# Altium footprint library Connector_Samtec_MicroMate.PcbLib: 76 footprints (part 5 of 5)
Each footprint in its own frame and in the unit in brackets; x right, y up, seen from the top. Pads: shape width x height; smd on the part's side, far side on the other; paste and mask are expansions set on the pad; w line width, h text height; cw(c..) or ccw(c..) is an arc to the next point about the centre after c.
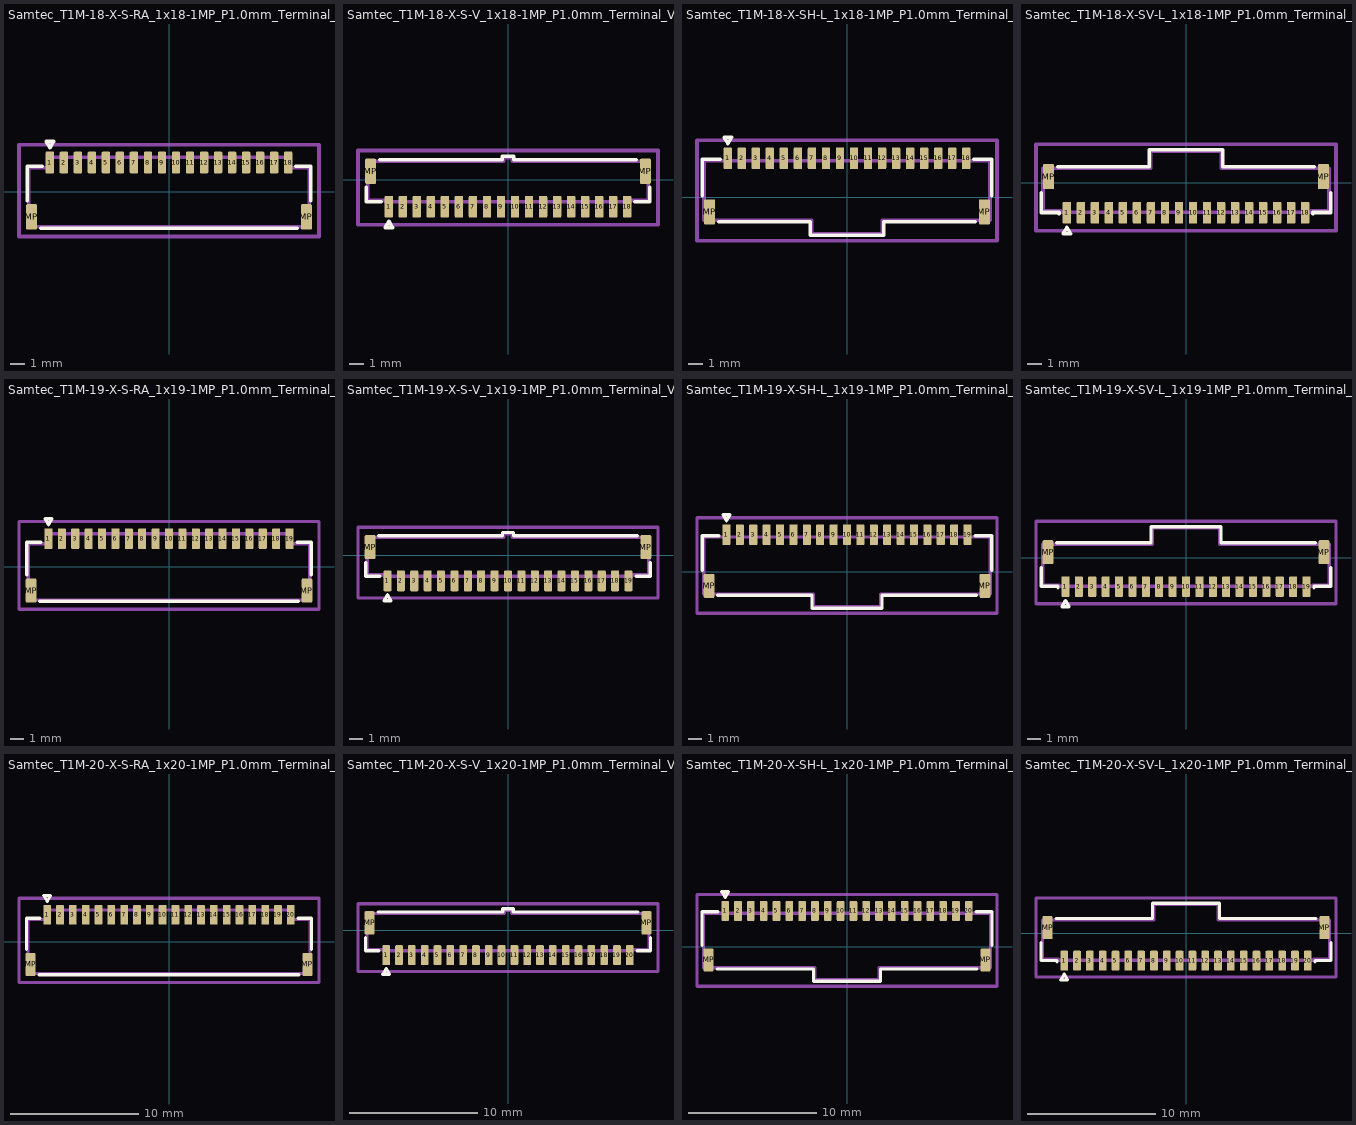
[diagram p4: the footprints below, top view; thin cyan lines are the x and y axes]

## Samtec_T1M-18-X-S-RA_1x18-1MP_P1.0mm_Terminal_Horizontal [mm]
pads (20):
  rrect25% 0.6x1.55 smd: 1(-8.5,2.1) 2(-7.5,2.1) 3(-6.5,2.1) 4(-5.5,2.1) 5(-4.5,2.1) 6(-3.5,2.1) 7(-2.5,2.1) 8(-1.5,2.1) 9(-0.5,2.1) 10(0.5,2.1) 11(1.5,2.1) 12(2.5,2.1) 13(3.5,2.1) 14(4.5,2.1) 15(5.5,2.1) 16(6.5,2.1) 17(7.5,2.1) 18(8.5,2.1)
  rrect25% 0.8x1.8 smd: MP(-9.8,-1.775) MP(9.8,-1.775)
F.SilkS:
  lines w0.254: -10.11,-0.615 -10.11,1.835 -9.06,1.835 ; -9.14,-2.585 9.14,-2.585 ; 9.06,1.835 10.11,1.835 10.11,-0.615 ; -8.76,3.6 -8.24,3.6 -8.5,3.15 -8.76,3.6
Top Assembly:
  lines w0.254: -10,-2.475 10,-2.475 10,1.725 8.6,1.725 8.6,2.475 -8.6,2.475 -8.6,1.725 -10,1.725 -10,-2.475
  text "'.Designator'" at -4.047,-0.84 h1
Top Courtyard:
  lines w0.254: -10.7,-3.18 10.7,-3.18 10.7,3.38 -10.7,3.38 -10.7,-3.18
Top Designator:
  text ".Designator" at -7.618,-0.298 h1.52

## Samtec_T1M-18-X-S-V_1x18-1MP_P1.0mm_Terminal_Vertical [mm]
pads (20):
  rrect25% 0.6x1.55 smd: 1(-8.5,-1.925) 2(-7.5,-1.925) 3(-6.5,-1.925) 4(-5.5,-1.925) 5(-4.5,-1.925) 6(-3.5,-1.925) 7(-2.5,-1.925) 8(-1.5,-1.925) 9(-0.5,-1.925) 10(0.5,-1.925) 11(1.5,-1.925) 12(2.5,-1.925) 13(3.5,-1.925) 14(4.5,-1.925) 15(5.5,-1.925) 16(6.5,-1.925) 17(7.5,-1.925) 18(8.5,-1.925)
  rrect25% 0.8x1.8 smd: MP(-9.8,0.6) MP(9.8,0.6)
F.SilkS:
  lines w0.254: -10.11,-0.56 -10.11,-1.585 -9.06,-1.585 ; -9.14,1.435 -0.41,1.435 -0.41,1.685 0.41,1.685 0.41,1.435 9.14,1.435 ; 9.06,-1.585 10.11,-1.585 10.11,-0.56 ; -8.76,-3.41 -8.24,-3.41 -8.5,-2.96 -8.76,-3.41
Top Assembly:
  lines w0.254: -10,-1.475 -8.75,-1.475 -8.75,-1.575 8.75,-1.575 8.75,-1.475 10,-1.475 10,1.325 0.3,1.325 0.3,1.575 -0.3,1.575 -0.3,1.325 -10,1.325 -10,-1.475
  text "'.Designator'" at -4.047,-0.84 h1
Top Courtyard:
  lines w0.254: -10.7,-3.2 10.7,-3.2 10.7,2.08 -10.7,2.08 -10.7,-3.2
Top Designator:
  text ".Designator" at -7.618,-1.173 h1.52

## Samtec_T1M-18-X-SH-L_1x18-1MP_P1.0mm_Terminal_Horizontal_Latch [mm]
pads (20):
  rrect25% 0.6x1.55 smd: 1(-8.5,2.775) 2(-7.5,2.775) 3(-6.5,2.775) 4(-5.5,2.775) 5(-4.5,2.775) 6(-3.5,2.775) 7(-2.5,2.775) 8(-1.5,2.775) 9(-0.5,2.775) 10(0.5,2.775) 11(1.5,2.775) 12(2.5,2.775) 13(3.5,2.775) 14(4.5,2.775) 15(5.5,2.775) 16(6.5,2.775) 17(7.5,2.775) 18(8.5,2.775)
  rrect25% 0.8x1.8 smd: MP(-9.8,-1.05) MP(9.8,-1.05)
F.SilkS:
  lines w0.254: -10.31,0.11 -10.31,2.71 -9.06,2.71 ; -9.14,-1.76 -2.61,-1.76 -2.61,-2.71 2.61,-2.71 2.61,-1.76 9.14,-1.76 ; 9.06,2.71 10.31,2.71 10.31,0.11 ; -8.76,4.275 -8.24,4.275 -8.5,3.825 -8.76,4.275
Top Assembly:
  lines w0.254: -10.2,-1.65 -2.5,-1.65 -2.5,-2.6 2.5,-2.6 2.5,-1.65 10.2,-1.65 10.2,2.6 -10.2,2.6 -10.2,-1.65
  text "'.Designator'" at -4.047,-0.84 h1
Top Courtyard:
  lines w0.254: -10.7,-3.1 10.7,-3.1 10.7,4.05 -10.7,4.05 -10.7,-3.1
Top Designator:
  text ".Designator" at -7.618,0.08 h1.52

## Samtec_T1M-18-X-SV-L_1x18-1MP_P1.0mm_Terminal_Vertical_Latch [mm]
pads (20):
  rrect25% 0.6x1.55 smd: 1(-8.5,-2.15) 2(-7.5,-2.15) 3(-6.5,-2.15) 4(-5.5,-2.15) 5(-4.5,-2.15) 6(-3.5,-2.15) 7(-2.5,-2.15) 8(-1.5,-2.15) 9(-0.5,-2.15) 10(0.5,-2.15) 11(1.5,-2.15) 12(2.5,-2.15) 13(3.5,-2.15) 14(4.5,-2.15) 15(5.5,-2.15) 16(6.5,-2.15) 17(7.5,-2.15) 18(8.5,-2.15)
  rrect25% 0.8x1.8 smd: MP(-9.8,0.425) MP(9.8,0.425)
F.SilkS:
  lines w0.254: -10.31,-0.735 -10.31,-2.135 -9.06,-2.135 -9.06,-2.235 ; -9.14,1.135 -2.61,1.135 -2.61,2.335 2.61,2.335 2.61,1.135 9.14,1.135 ; 9.06,-2.235 9.06,-2.135 10.31,-2.135 10.31,-0.735 ; -8.76,-3.65 -8.24,-3.65 -8.5,-3.2 -8.76,-3.65
Top Assembly:
  lines w0.254: -10.2,-2.025 -8.95,-2.025 -8.95,-2.125 8.95,-2.125 8.95,-2.025 10.2,-2.025 10.2,1.025 2.5,1.025 2.5,2.225 -2.5,2.225 -2.5,1.025 -10.2,1.025 -10.2,-2.025
  text "'.Designator'" at -4.047,-0.84 h1
Top Courtyard:
  lines w0.254: -10.7,-3.43 10.7,-3.43 10.7,2.73 -10.7,2.73 -10.7,-3.43
Top Designator:
  text ".Designator" at -7.618,-0.968 h1.52

## Samtec_T1M-19-X-S-RA_1x19-1MP_P1.0mm_Terminal_Horizontal [mm]
pads (21):
  rrect25% 0.6x1.55 smd: 1(-9,2.1) 2(-8,2.1) 3(-7,2.1) 4(-6,2.1) 5(-5,2.1) 6(-4,2.1) 7(-3,2.1) 8(-2,2.1) 9(-1,2.1) 10(0,2.1) 11(1,2.1) 12(2,2.1) 13(3,2.1) 14(4,2.1) 15(5,2.1) 16(6,2.1) 17(7,2.1) 18(8,2.1) 19(9,2.1)
  rrect25% 0.8x1.8 smd: MP(-10.3,-1.775) MP(10.3,-1.775)
F.SilkS:
  lines w0.254: -10.61,-0.615 -10.61,1.835 -9.56,1.835 ; -9.64,-2.585 9.64,-2.585 ; 9.56,1.835 10.61,1.835 10.61,-0.615 ; -9.26,3.6 -8.74,3.6 -9,3.15 -9.26,3.6
Top Assembly:
  lines w0.254: -10.5,-2.475 10.5,-2.475 10.5,1.725 9.1,1.725 9.1,2.475 -9.1,2.475 -9.1,1.725 -10.5,1.725 -10.5,-2.475
  text "'.Designator'" at -4.047,-0.84 h1
Top Courtyard:
  lines w0.254: -11.2,-3.18 11.2,-3.18 11.2,3.38 -11.2,3.38 -11.2,-3.18
Top Designator:
  text ".Designator" at -7.618,-0.298 h1.52

## Samtec_T1M-19-X-S-V_1x19-1MP_P1.0mm_Terminal_Vertical [mm]
pads (21):
  rrect25% 0.6x1.55 smd: 1(-9,-1.925) 2(-8,-1.925) 3(-7,-1.925) 4(-6,-1.925) 5(-5,-1.925) 6(-4,-1.925) 7(-3,-1.925) 8(-2,-1.925) 9(-1,-1.925) 10(0,-1.925) 11(1,-1.925) 12(2,-1.925) 13(3,-1.925) 14(4,-1.925) 15(5,-1.925) 16(6,-1.925) 17(7,-1.925) 18(8,-1.925) 19(9,-1.925)
  rrect25% 0.8x1.8 smd: MP(-10.3,0.6) MP(10.3,0.6)
F.SilkS:
  lines w0.254: -10.61,-0.56 -10.61,-1.585 -9.56,-1.585 ; -9.64,1.435 -0.41,1.435 -0.41,1.685 0.41,1.685 0.41,1.435 9.64,1.435 ; 9.56,-1.585 10.61,-1.585 10.61,-0.56 ; -9.26,-3.41 -8.74,-3.41 -9,-2.96 -9.26,-3.41
Top Assembly:
  lines w0.254: -10.5,-1.475 -9.25,-1.475 -9.25,-1.575 9.25,-1.575 9.25,-1.475 10.5,-1.475 10.5,1.325 0.3,1.325 0.3,1.575 -0.3,1.575 -0.3,1.325 -10.5,1.325 -10.5,-1.475
  text "'.Designator'" at -4.047,-0.84 h1
Top Courtyard:
  lines w0.254: -11.2,-3.2 11.2,-3.2 11.2,2.08 -11.2,2.08 -11.2,-3.2
Top Designator:
  text ".Designator" at -7.618,-1.173 h1.52

## Samtec_T1M-19-X-SH-L_1x19-1MP_P1.0mm_Terminal_Horizontal_Latch [mm]
pads (21):
  rrect25% 0.6x1.55 smd: 1(-9,2.775) 2(-8,2.775) 3(-7,2.775) 4(-6,2.775) 5(-5,2.775) 6(-4,2.775) 7(-3,2.775) 8(-2,2.775) 9(-1,2.775) 10(0,2.775) 11(1,2.775) 12(2,2.775) 13(3,2.775) 14(4,2.775) 15(5,2.775) 16(6,2.775) 17(7,2.775) 18(8,2.775) 19(9,2.775)
  rrect25% 0.8x1.8 smd: MP(-10.3,-1.05) MP(10.3,-1.05)
F.SilkS:
  lines w0.254: -10.81,0.11 -10.81,2.71 -9.56,2.71 ; -9.64,-1.76 -2.61,-1.76 -2.61,-2.71 2.61,-2.71 2.61,-1.76 9.64,-1.76 ; 9.56,2.71 10.81,2.71 10.81,0.11 ; -9.26,4.275 -8.74,4.275 -9,3.825 -9.26,4.275
Top Assembly:
  lines w0.254: -10.7,-1.65 -2.5,-1.65 -2.5,-2.6 2.5,-2.6 2.5,-1.65 10.7,-1.65 10.7,2.6 -10.7,2.6 -10.7,-1.65
  text "'.Designator'" at -4.047,-0.84 h1
Top Courtyard:
  lines w0.254: -11.2,-3.1 11.2,-3.1 11.2,4.05 -11.2,4.05 -11.2,-3.1
Top Designator:
  text ".Designator" at -7.618,0.08 h1.52

## Samtec_T1M-19-X-SV-L_1x19-1MP_P1.0mm_Terminal_Vertical_Latch [mm]
pads (21):
  rrect25% 0.6x1.55 smd: 1(-9,-2.15) 2(-8,-2.15) 3(-7,-2.15) 4(-6,-2.15) 5(-5,-2.15) 6(-4,-2.15) 7(-3,-2.15) 8(-2,-2.15) 9(-1,-2.15) 10(0,-2.15) 11(1,-2.15) 12(2,-2.15) 13(3,-2.15) 14(4,-2.15) 15(5,-2.15) 16(6,-2.15) 17(7,-2.15) 18(8,-2.15) 19(9,-2.15)
  rrect25% 0.8x1.8 smd: MP(-10.3,0.425) MP(10.3,0.425)
F.SilkS:
  lines w0.254: -10.81,-0.735 -10.81,-2.135 -9.56,-2.135 -9.56,-2.235 ; -9.64,1.135 -2.61,1.135 -2.61,2.335 2.61,2.335 2.61,1.135 9.64,1.135 ; 9.56,-2.235 9.56,-2.135 10.81,-2.135 10.81,-0.735 ; -9.26,-3.65 -8.74,-3.65 -9,-3.2 -9.26,-3.65
Top Assembly:
  lines w0.254: -10.7,-2.025 -9.45,-2.025 -9.45,-2.125 9.45,-2.125 9.45,-2.025 10.7,-2.025 10.7,1.025 2.5,1.025 2.5,2.225 -2.5,2.225 -2.5,1.025 -10.7,1.025 -10.7,-2.025
  text "'.Designator'" at -4.047,-0.84 h1
Top Courtyard:
  lines w0.254: -11.2,-3.43 11.2,-3.43 11.2,2.73 -11.2,2.73 -11.2,-3.43
Top Designator:
  text ".Designator" at -7.618,-0.968 h1.52

## Samtec_T1M-20-X-S-RA_1x20-1MP_P1.0mm_Terminal_Horizontal [mm]
pads (22):
  rrect25% 0.6x1.55 smd: 1(-9.5,2.1) 2(-8.5,2.1) 3(-7.5,2.1) 4(-6.5,2.1) 5(-5.5,2.1) 6(-4.5,2.1) 7(-3.5,2.1) 8(-2.5,2.1) 9(-1.5,2.1) 10(-0.5,2.1) 11(0.5,2.1) 12(1.5,2.1) 13(2.5,2.1) 14(3.5,2.1) 15(4.5,2.1) 16(5.5,2.1) 17(6.5,2.1) 18(7.5,2.1) 19(8.5,2.1) 20(9.5,2.1)
  rrect25% 0.8x1.8 smd: MP(-10.8,-1.775) MP(10.8,-1.775)
F.SilkS:
  lines w0.254: -11.11,-0.615 -11.11,1.835 -10.06,1.835 ; -10.14,-2.585 10.14,-2.585 ; 10.06,1.835 11.11,1.835 11.11,-0.615 ; -9.76,3.6 -9.24,3.6 -9.5,3.15 -9.76,3.6
Top Assembly:
  lines w0.254: -11,-2.475 11,-2.475 11,1.725 9.6,1.725 9.6,2.475 -9.6,2.475 -9.6,1.725 -11,1.725 -11,-2.475
  text "'.Designator'" at -4.047,-0.84 h1
Top Courtyard:
  lines w0.254: -11.7,-3.18 11.7,-3.18 11.7,3.38 -11.7,3.38 -11.7,-3.18
Top Designator:
  text ".Designator" at -7.618,-0.298 h1.52

## Samtec_T1M-20-X-S-V_1x20-1MP_P1.0mm_Terminal_Vertical [mm]
pads (22):
  rrect25% 0.6x1.55 smd: 1(-9.5,-1.925) 2(-8.5,-1.925) 3(-7.5,-1.925) 4(-6.5,-1.925) 5(-5.5,-1.925) 6(-4.5,-1.925) 7(-3.5,-1.925) 8(-2.5,-1.925) 9(-1.5,-1.925) 10(-0.5,-1.925) 11(0.5,-1.925) 12(1.5,-1.925) 13(2.5,-1.925) 14(3.5,-1.925) 15(4.5,-1.925) 16(5.5,-1.925) 17(6.5,-1.925) 18(7.5,-1.925) 19(8.5,-1.925) 20(9.5,-1.925)
  rrect25% 0.8x1.8 smd: MP(-10.8,0.6) MP(10.8,0.6)
F.SilkS:
  lines w0.254: -11.11,-0.56 -11.11,-1.585 -10.06,-1.585 ; -10.14,1.435 -0.41,1.435 -0.41,1.685 0.41,1.685 0.41,1.435 10.14,1.435 ; 10.06,-1.585 11.11,-1.585 11.11,-0.56 ; -9.76,-3.41 -9.24,-3.41 -9.5,-2.96 -9.76,-3.41
Top Assembly:
  lines w0.254: -11,-1.475 -9.75,-1.475 -9.75,-1.575 9.75,-1.575 9.75,-1.475 11,-1.475 11,1.325 0.3,1.325 0.3,1.575 -0.3,1.575 -0.3,1.325 -11,1.325 -11,-1.475
  text "'.Designator'" at -4.047,-0.84 h1
Top Courtyard:
  lines w0.254: -11.7,-3.2 11.7,-3.2 11.7,2.08 -11.7,2.08 -11.7,-3.2
Top Designator:
  text ".Designator" at -7.618,-1.173 h1.52

## Samtec_T1M-20-X-SH-L_1x20-1MP_P1.0mm_Terminal_Horizontal_Latch [mm]
pads (22):
  rrect25% 0.6x1.55 smd: 1(-9.5,2.775) 2(-8.5,2.775) 3(-7.5,2.775) 4(-6.5,2.775) 5(-5.5,2.775) 6(-4.5,2.775) 7(-3.5,2.775) 8(-2.5,2.775) 9(-1.5,2.775) 10(-0.5,2.775) 11(0.5,2.775) 12(1.5,2.775) 13(2.5,2.775) 14(3.5,2.775) 15(4.5,2.775) 16(5.5,2.775) 17(6.5,2.775) 18(7.5,2.775) 19(8.5,2.775) 20(9.5,2.775)
  rrect25% 0.8x1.8 smd: MP(-10.8,-1.05) MP(10.8,-1.05)
F.SilkS:
  lines w0.254: -11.31,0.11 -11.31,2.71 -10.06,2.71 ; -10.14,-1.76 -2.61,-1.76 -2.61,-2.71 2.61,-2.71 2.61,-1.76 10.14,-1.76 ; 10.06,2.71 11.31,2.71 11.31,0.11 ; -9.76,4.275 -9.24,4.275 -9.5,3.825 -9.76,4.275
Top Assembly:
  lines w0.254: -11.2,-1.65 -2.5,-1.65 -2.5,-2.6 2.5,-2.6 2.5,-1.65 11.2,-1.65 11.2,2.6 -11.2,2.6 -11.2,-1.65
  text "'.Designator'" at -4.047,-0.84 h1
Top Courtyard:
  lines w0.254: -11.7,-3.1 11.7,-3.1 11.7,4.05 -11.7,4.05 -11.7,-3.1
Top Designator:
  text ".Designator" at -7.618,0.08 h1.52

## Samtec_T1M-20-X-SV-L_1x20-1MP_P1.0mm_Terminal_Vertical_Latch [mm]
pads (22):
  rrect25% 0.6x1.55 smd: 1(-9.5,-2.15) 2(-8.5,-2.15) 3(-7.5,-2.15) 4(-6.5,-2.15) 5(-5.5,-2.15) 6(-4.5,-2.15) 7(-3.5,-2.15) 8(-2.5,-2.15) 9(-1.5,-2.15) 10(-0.5,-2.15) 11(0.5,-2.15) 12(1.5,-2.15) 13(2.5,-2.15) 14(3.5,-2.15) 15(4.5,-2.15) 16(5.5,-2.15) 17(6.5,-2.15) 18(7.5,-2.15) 19(8.5,-2.15) 20(9.5,-2.15)
  rrect25% 0.8x1.8 smd: MP(-10.8,0.425) MP(10.8,0.425)
F.SilkS:
  lines w0.254: -11.31,-0.735 -11.31,-2.135 -10.06,-2.135 -10.06,-2.235 ; -10.14,1.135 -2.61,1.135 -2.61,2.335 2.61,2.335 2.61,1.135 10.14,1.135 ; 10.06,-2.235 10.06,-2.135 11.31,-2.135 11.31,-0.735 ; -9.76,-3.65 -9.24,-3.65 -9.5,-3.2 -9.76,-3.65
Top Assembly:
  lines w0.254: -11.2,-2.025 -9.95,-2.025 -9.95,-2.125 9.95,-2.125 9.95,-2.025 11.2,-2.025 11.2,1.025 2.5,1.025 2.5,2.225 -2.5,2.225 -2.5,1.025 -11.2,1.025 -11.2,-2.025
  text "'.Designator'" at -4.047,-0.84 h1
Top Courtyard:
  lines w0.254: -11.7,-3.43 11.7,-3.43 11.7,2.73 -11.7,2.73 -11.7,-3.43
Top Designator:
  text ".Designator" at -7.618,-0.968 h1.52